# Altium schematic symbol library lib_ic_MSC.SchLib: 4 symbols
Pins are listed as number, name and electrical type; pins without a type are passive.

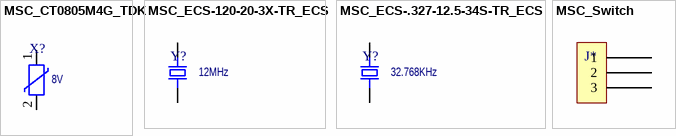
[diagram p0: symbols MSC_CT0805M4G_TDK to MSC_Switch]

## MSC_CT0805M4G_TDK
designator X?  Voltage Rating: 8V  (hidden comment: *)
VARISTOR 8V 100A 0805; Mouser Part Number: *; Digikey Part Number: *; Manufacturer Part Number: *
footprint RESC2013X065BN (Chip Resistor, 0805, Body 2.0x1.3mm, Pads modified for 1mm spacing.)
pins: 1 T1, 2 T2

## MSC_ECS-120-20-3X-TR_ECS
designator Y?  value 12MHz  (hidden comment: *)
12 MHz ±30 ppm Cristales 20 pF 60 Ohm -10°C ~ 70°C Montaje en superficie HC49/US; Manufacturer: ECS Inc.; Manufacturer Part Number: ECS-120-20-3X-TR; BOM Populate: *; Digikey Part Number: XC1770DKR-ND; Supplier: *; Supplier Part No: *; Tolerance: *; Power Rating: *; Voltage Rating: *; Mouser Part Number: 520-120-20-3XT
footprint CSM-3X (Quartz Crystal, SM; Body 7.00 mm x 4.10 mm x 2.30 mm)
pins: 1, 2

## MSC_ECS-.327-12.5-34S-TR_ECS
designator Y?  value 32.768KHz  (hidden comment: *)
CRYSTAL 32.7680KHZ 12.5PF SMD; Manufacturer: ECS; Manufacturer Part Number: ECS-.327-12.5-34S-TR; BOM Populate: *; Digikey Part Number: XC1967CT-ND; Supplier: *; Supplier Part No: *; Tolerance: *; Power Rating: *; Voltage Rating: *; Mouser Part Number: 520-ECS32.7-12.534ST
footprint XTAL3215X090N (Crystal, Body: 3.2mmm X 1.5mm)
pins: 1, 2

## MSC_Switch
designator J*  (value not drawn)
footprint SW_FSMRA3JH (FSMRA3JH Push Button)
pins: 1, 2, 3